# EAGLE library part AP2166 (library diodes-inc)
USB POWER SWITCH 1A DUAL CHANNEL CURRENT-LIMITED POWER SWITCH
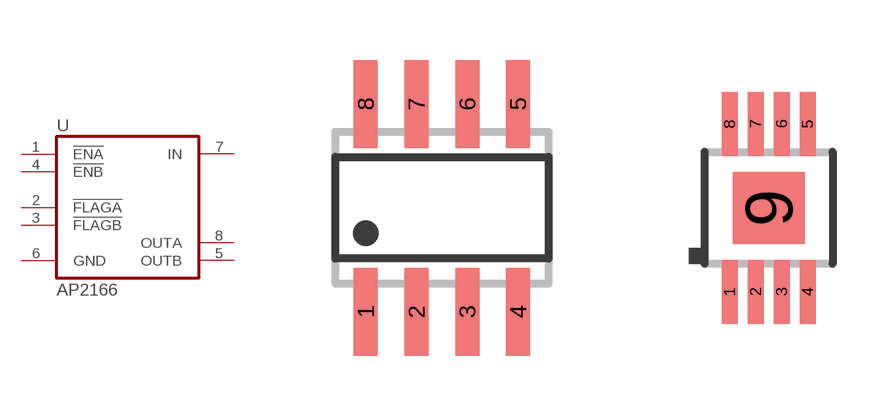
[diagram p1: symbol with the pads of SO08; footprints SO08, MSOP08-EP]

Designator prefix -

## AP2166S  [SO08]
1  !ENA!  in
2  !FLAGA!  out
3  !FLAGB!  out
4  !ENB!  in
5  OUTB  out
6  GND  pwr
7  IN  pwr
8  OUTA  out

## AP2166MP  [MSOP08-EP]
1  !ENA!  in
2  !FLAGA!  out
3  !FLAGB!  out
4  !ENB!  in
5  OUTB  out
6  GND  pwr
7  IN  pwr
8  OUTA  out
9  GND  pwr

## Footprint SO08 (pad centres in mm)
SMALL OUTLINE INTEGRATED CIRCUIT body 3.9 mm/JEDEC MS-012AA
smd 0.6 x 2.2: 1 -1.905,-2.6; 2 -0.635,-2.6; 3 0.635,-2.6; 4 1.905,-2.6; 5 1.905,2.6; 6 0.635,2.6; 7 -0.635,2.6; 8 -1.905,2.6

## Footprint MSOP08-EP (pad centres in mm)
MSOP 8 - EP pitch 0.65 mm, Exposed Pad
smd 0.4 x 1.6: 1 -0.975,-2.1; 2 -0.325,-2.1; 3 0.325,-2.1; 4 0.975,-2.1; 5 0.975,2.1; 6 0.325,2.1; 7 -0.325,2.1; 8 -0.975,2.1
smd 1.8 x 1.8: 9 0,0